# Altium schematic symbol library 3314G-1-102E.SchLib: 1 symbol
Pins are listed as number, name and electrical type; pins without a type are passive.

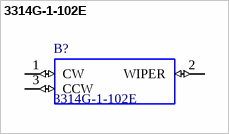
[diagram p0: symbol 3314G-1-102E]

## 3314G-1-102E
designator B?
3314G SMT top adj cermet trimmer,1K 4mm Bourns 3314G Series SMD Cermet Trimmer Resistor with Gull Wing Terminations, 1k 20% 0.25W 100ppm/C Top Adjust; Geometry.Height: mm; Supplier_Name: RS; RS Part Number: 1001133P; Manufacturer_Name: Bourns; Manufacturer_Part_Number: 3314G-1-102E; Allied_Number: *; Other Part Number: *; Datasheet Link: https://componentsearchengine.com/Datasheets/2/3314G-1-102E.pdf; 3D Package: *
footprint 3314G-1-102E
pins: 1 CW (io), 2 WIPER (io), 3 CCW (io)